# EAGLE library part LT3580 (library Diplomarbeit)
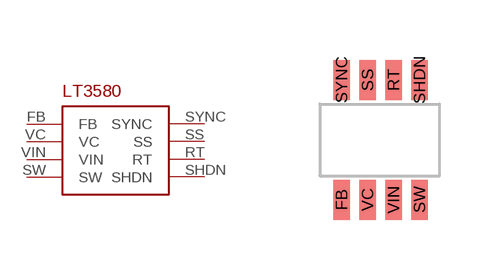
[diagram p6: symbol with the pads of LT3580; footprint LT3580]

Designator prefix -

## LT3580  [LT3580]
FB  FB
RT  RT
SHDN  SHDN
SS  SS
SW  SW
SYNC  SYNC
VC  VC
VIN  VIN

## Footprint LT3580 (pad centres in mm)
smd 0.42 x 1: FB -0.95,-1.5; RT 0.35,1.5; SHDN 1,1.5; SS -0.3,1.5; SW 1,-1.5; SYNC -0.95,1.5; VC -0.3,-1.5; VIN 0.35,-1.5